# Altium schematic symbol library driver_motor_bridge.SchLib: 33 symbols
Pins are listed as number, name and electrical type; pins without a type are passive.

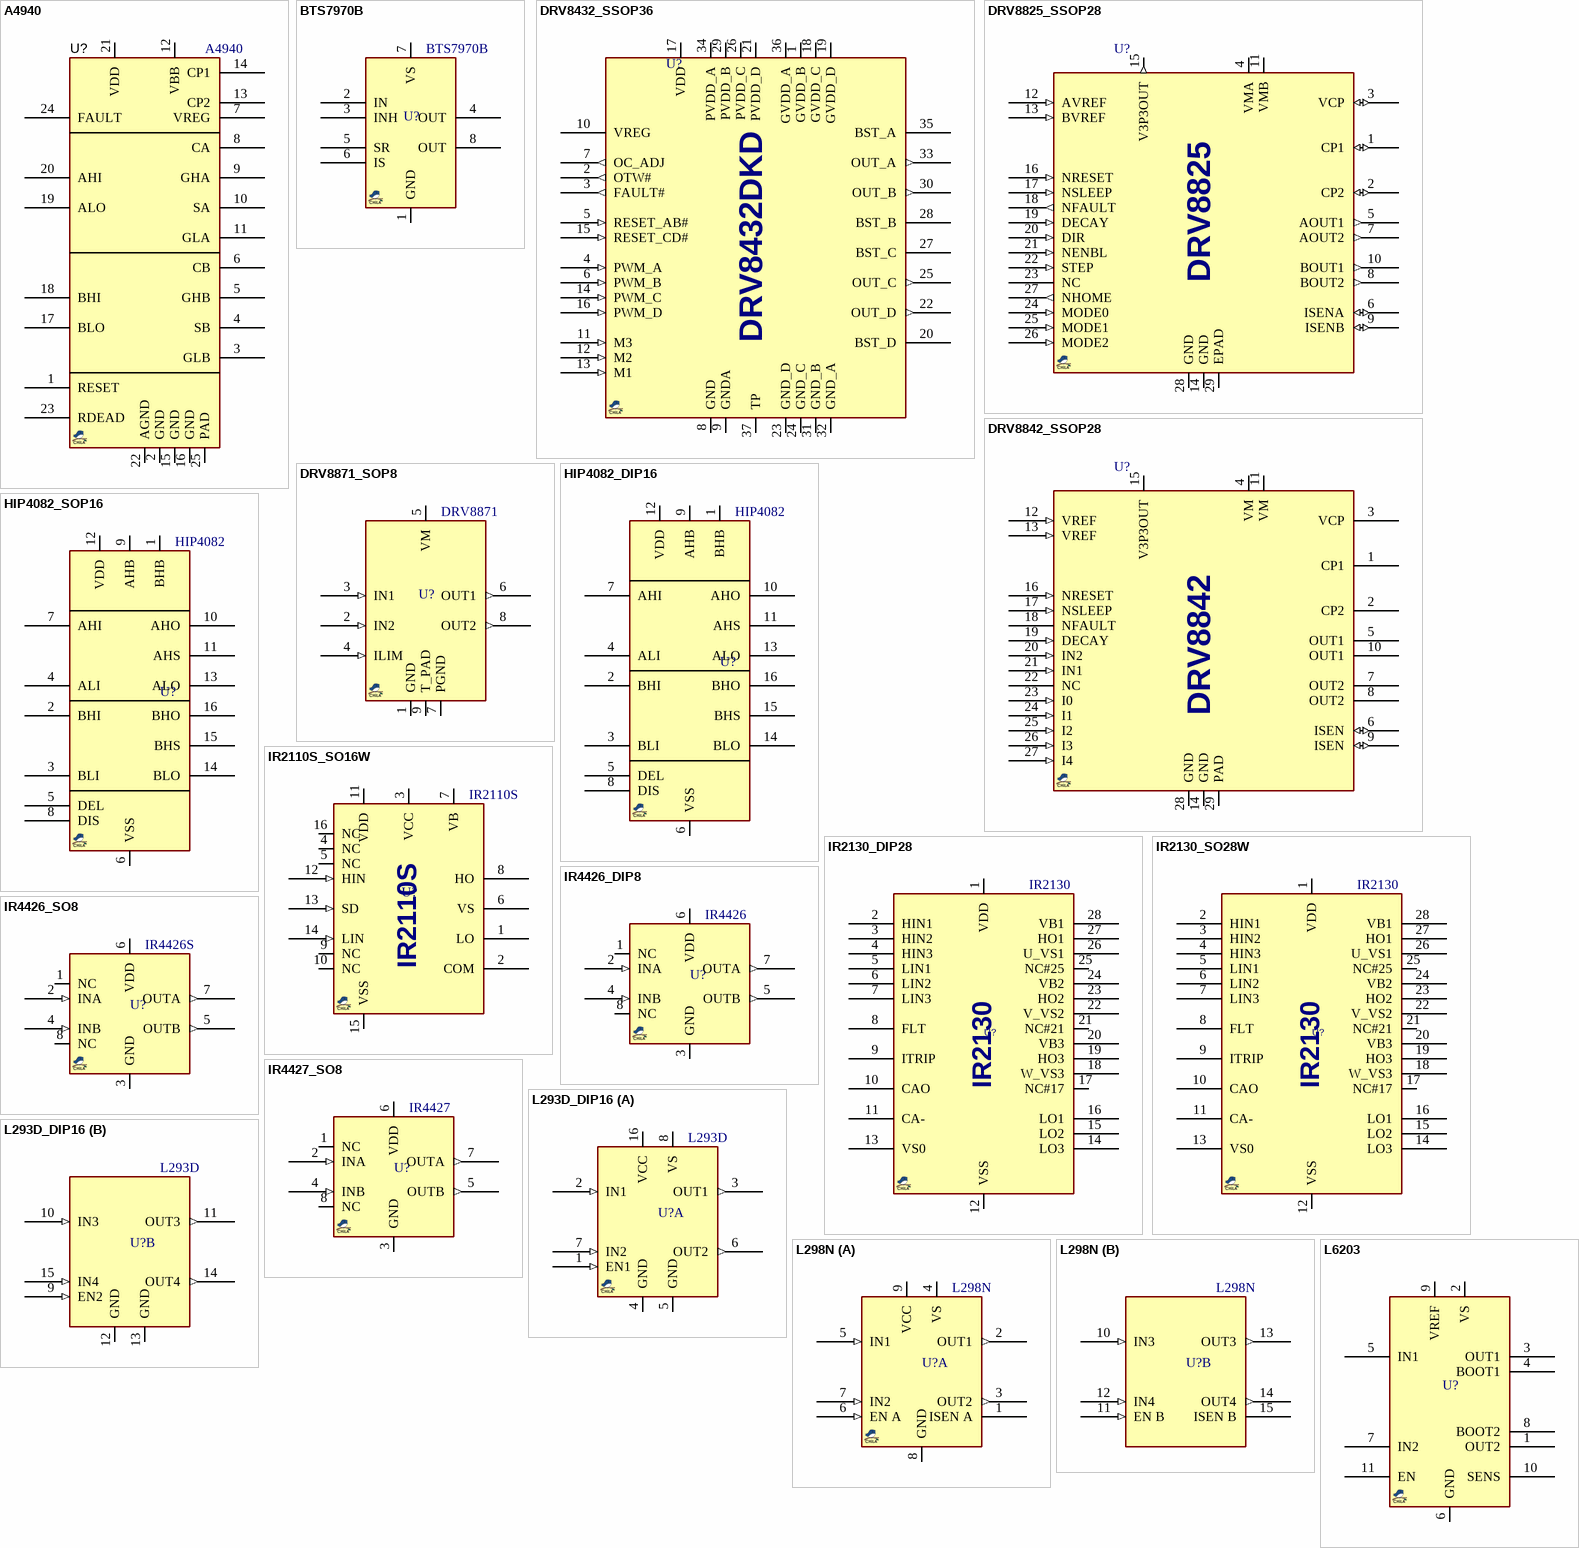
[diagram p0: symbols A4940 to L6203]

## A4940
designator U?
Driver, MOSFET, Full Bridge, Automotive; MANF_P#: A4940KLPTR-T; MANF: Allegro Microsystems Inc; PARAM2: 5.5~50V; VALUE: A4940
footprint SOG65_24T (TSSOP 4.4mm(MAXIM), MO-153-ADT (JEDEC), 24Lead, pitch: 0.65mm, 8x4.4x1.2mm)
pins: 1 RESET "reset input", 2 GND (power) "ground", 3 GLB "low-side gate drive B", 4 SB "load connection B", 5 GHB "high-side gate drive B", 6 CB "bootstrap capacitor B", 7 VREG "regulated 13V ouput", 8 CA "bootstrap capacitor A", 9 GHA "high-side gate drive A", 10 SA "load connection A", 11 GLA "low-side gate drive A", 12 VBB (power) "main supply", 13 CP2 "pump capacitor", 14 CP1 "pump capacitor", 15 GND (power) "ground", 16 GND (power) "ground", 17 BLO "control input B low side", 18 BHI "control input B high side", 19 ALO "control input A low side", 20 AHI "control input A high side", 21 VDD (power) "logic supply", 22 AGND (power) "ground reference", 23 RDEAD "dead time setting input", 24 FAULT "fault output", 25 PAD (power) "exposed die pad"

## BTS7970B
designator U?
Driver, MOTOR, H-BRIDGE, 68A, 7mΩ,; MANF: Infineon; MANF_P#: BTS7970B; PARAM: 68A, 7mΩ,; VALUE: BTS7970B
footprint D2PAK_7 (TO-263-7, D2PAK-7, FMG127_7_S1000)
pins: 1 GND (power), 2 IN (power), 3 INH (power), 4 OUT (power), 5 SR (power), 6 IS (power), 7 VS (power), 8 OUT (power)

## DRV8432_SSOP36
designator U?, comment DRV8432  (value not drawn)
Driver, Motor, Full-Bridge, Dual, PWM; MANF: Texas Instruments; MANF_P#: DRV8432DKDR; VALUE: DRV8432
footprint SOG65_36T_D (HSSOP 36 DKD)
pins: 1 GVDD_B (power), 2 OTW# (out), 3 FAULT# (out), 4 PWM_A (in), 5 RESET_AB# (in), 6 PWM_B (in), 7 OC_ADJ (out), 8 GND (power), 9 GNDA (power), 10 VREG (power), 11 M3 (in), 12 M2 (in), 13 M1 (in), 14 PWM_C (in), 15 RESET_CD# (in), 16 PWM_D (in), 17 VDD (power), 18 GVDD_C (power), 19 GVDD_D (power), 20 BST_D (power), 21 PVDD_D (power), 22 OUT_D (out), 23 GND_D (power), 24 GND_C (power), 25 OUT_C (out), 26 PVDD_C (power), 27 BST_C (power), 28 BST_B (power), 29 PVDD_B (power), 30 OUT_B (out), 31 GND_B (power), 32 GND_A (power), 33 OUT_A (out), 34 PVDD_A (power), 35 BST_A (power), 36 GVDD_A (power), 37 TP
text: DRV8432DKD

## DRV8825_SSOP28
designator U?, comment DRV8825  (value not drawn)
Driver, DC Motor, Stepper, Up to 1/32 stepping; MANF: Texas Instruments; MANF_P#: DRV8825PWPR; PARAM2: 8.2~45V; PARAM: 2.5A@24V; VALUE: DRV8825
footprint SOG65_28T (TSSOP 4.4mm, MO-153-AET (JEDEC), 28TLead, pitch: 0.65mm, 10x4.4x1.2mm, PWP HTSSOP R-PDSO-G28)
pins: 1 CP1 (io), 2 CP2 (io), 3 VCP (io), 4 VMA (power), 5 AOUT1 (out), 6 ISENA (io), 7 AOUT2 (out), 8 BOUT2 (out), 9 ISENB (io), 10 BOUT1 (out), 11 VMB (power), 12 AVREF (in), 13 BVREF (in), 14 GND (power), 15 V3P3OUT (out), 16 NRESET (in), 17 NSLEEP (in), 18 NFAULT (out), 19 DECAY (in), 20 DIR (in), 21 NENBL (in), 22 STEP (in), 23 NC, 24 MODE0 (in), 25 MODE1 (in), 26 MODE2 (in), 27 NHOME (out), 28 GND (power), 29 EPAD

## DRV8842_SSOP28
designator U?, comment DRV8842  (value not drawn)
Driver, DC Motor; MANF: Texas Instruments; MANF_P#: DRV8842PWPR; PARAM2: 8.2~45V; PARAM: 5A; VALUE: DRV8842
footprint SOG65_28T (TSSOP 4.4mm, MO-153-AET (JEDEC), 28TLead, pitch: 0.65mm, 10x4.4x1.2mm, PWP HTSSOP R-PDSO-G28)
pins: 1 CP1, 2 CP2, 3 VCP (power), 4 VM (power), 5 OUT1 (power), 6 ISEN (io), 7 OUT2 (power), 8 OUT2 (power), 9 ISEN (io), 10 OUT1 (power), 11 VM (power), 12 VREF (in), 13 VREF (in), 14 GND (power), 15 V3P3OUT (power), 16 NRESET (in), 17 NSLEEP (in), 18 NFAULT (oc), 19 DECAY (in), 20 IN2 (in), 21 IN1 (in), 22 NC, 23 I0 (in), 24 I1 (in), 25 I2 (in), 26 I3 (in), 27 I4 (in), 28 GND (power), 29 PAD (power)

## DRV8871_SOP8
designator U?, comment DRV8871
Drive, Brushed DC Motor,  Internal Current Sense (PWM Control); MANF: Texas Instruments; MANF_P#: DRV8871DDA; PARAM2: ±2.5~±20V; PARAM: 3.6-A; VALUE: DRV8871
footprint SO_8T (SOP-8, 5x3.9mm body 0.5mm pitch, DDA, SO PowerPAD)
pins: 1 GND (power), 2 IN2 (in), 3 IN1 (in), 4 ILIM (in), 5 VM (power), 6 OUT1 (out), 7 PGND (power), 8 OUT2 (out), 9 T_PAD (power)

## HIP4082_DIP16
designator U?, comment HIP4082
Driver, H-BRIDGE, 80V, 1.25A; MANF: Intersil; MANF_P#: HIP4082IPZ; VALUE: HIP4082
footprint DIP_16 (DIP, pitch 2.54mm, 300mil Width)
pins: 1 BHB, 2 BHI, 3 BLI, 4 ALI, 5 DEL, 6 VSS, 7 AHI, 8 DIS, 9 AHB, 10 AHO, 11 AHS, 12 VDD, 13 ALO, 14 BLO, 15 BHS, 16 BHO

## HIP4082_SOP16
designator U?, comment HIP4082
Driver, H-BRIDGE, 80V, 1.25A; MANF: Intersil; MANF_P#: HIP4082IBZ; VALUE: HIP4082
footprint SO_16 (SOP, SOIC, 3.9mm width, 1.27mm pitch,)
pins: 1 BHB, 2 BHI, 3 BLI, 4 ALI, 5 DEL, 6 VSS, 7 AHI, 8 DIS, 9 AHB, 10 AHO, 11 AHS, 12 VDD, 13 ALO, 14 BLO, 15 BHS, 16 BHO

## IR2110S_SO16W
designator U?, comment IR2110S
Driver, MOSFET, High&Low Side; MANF: Infineon; MANF_P#: IR2110SPBF; PARAM: 2A, 20A; PRICE: 4$; VALUE: IR2110S
footprint SO_16_W (SOP, SOIC, 7.5mm width, 1.27mm pitch,)
pins: 1 LO (power), 2 COM (power), 3 VCC (power), 4 NC (hiz), 5 NC (hiz), 6 VS (power), 7 VB (power), 8 HO (power), 9 NC (hiz), 10 NC (hiz), 11 VDD (power), 12 HIN (in), 13 SD (in), 14 LIN (in), 15 VSS (power), 16 NC (hiz)

## IR2130_DIP28
designator U?, comment IR2130
Driver, Bridge, 3-Phase; MANF: International Rectifier, Infineon; PARAM: 200mA, 20V; MANF_P#: IR2130; VALUE: IR2130
footprint DIP_28DW (DIP, pitch 2.54mm, 600mil Width)
pins: 1 VDD, 2 HIN1, 3 HIN2, 4 HIN3, 5 LIN1, 6 LIN2, 7 LIN3, 8 FLT, 9 ITRIP, 10 CAO, 11 CA-, 12 VSS, 13 VS0, 14 LO3, 15 LO2, 16 LO1, 17 NC#17, 18 W_VS3, 19 HO3, 20 VB3, 21 NC#21, 22 V_VS2, 23 HO2, 24 VB2, 25 NC#25, 26 U_VS1, 27 HO1, 28 VB1

## IR2130_SO28W
designator U?, comment IR2130
Driver, Bridge, 3-Phase; MANF: International Rectifier, Infineon; MANF_P#: IR2130S; PARAM: 200mA, 20V; VALUE: IR2130
footprint SO_28_W (SOP, SOIC, 7.5mm width, 1.27mm pitch,)
pins: 1 VDD, 2 HIN1, 3 HIN2, 4 HIN3, 5 LIN1, 6 LIN2, 7 LIN3, 8 FLT, 9 ITRIP, 10 CAO, 11 CA-, 12 VSS, 13 VS0, 14 LO3, 15 LO2, 16 LO1, 17 NC#17, 18 W_VS3, 19 HO3, 20 VB3, 21 NC#21, 22 V_VS2, 23 HO2, 24 VB2, 25 NC#25, 26 U_VS1, 27 HO1, 28 VB1

## IR4426_DIP8
designator U?, comment IR4426
Driver, Dual High-Speed 1.5A MOSFET; MANF: Infineon; MANF_P#: IR4426PBF; PARAM: 1.5A, 20V, -40~125C; VALUE: IR4426
footprint DIP_8 (DIP, pitch 2.54mm, 300mil Width)
pins: 1 NC, 2 INA (in), 3 GND (power), 4 INB (in), 5 OUTB (out), 6 VDD (power), 7 OUTA (out), 8 NC

## IR4426_SO8
designator U?, comment IR4426S
Driver, Dual High-Speed 1.5A MOSFET; MANF: Infineon; MANF_P#: IR4426SPBF; PARAM: 1.5A, 20V, -40~125C; VALUE: IR4426S
footprint SO_8 (SOP-8, 5x3.9mm body 1.27mm pitch, SOT96-1, M08A, S8, SOIC8, VO8, MS-012AA(JEDEC), R-8, 8S2, VOG8)
pins: 1 NC, 2 INA (in), 3 GND (power), 4 INB (in), 5 OUTB (out), 6 VDD (power), 7 OUTA (out), 8 NC

## IR4427_SO8
designator U?, comment IR4427
Driver, Dual High-Speed 1.5A MOSFET; MANF: Infineon; MANF_P#: IR4427SPBF; PARAM: 1.5A, 20V, -40~125C; VALUE: IR4427
footprint SO_8 (SOP-8, 5x3.9mm body 1.27mm pitch, SOT96-1, M08A, S8, SOIC8, VO8, MS-012AA(JEDEC), R-8, 8S2, VOG8)
pins: 1 NC, 2 INA (in), 3 GND (power), 4 INB (in), 5 OUTB (out), 6 VDD (power), 7 OUTA (out), 8 NC

## L293D_DIP16
designator U?, comment L293D
Driver, Dual Full Bridge, PUSH-PULL; MANF: ST; PARAM: 2A, 36V; MANF_P#: L293D; VALUE: L293D
footprint DIP_16 (DIP, pitch 2.54mm, 300mil Width)
part A pins: 1 EN1 (in), 2 IN1 (in), 3 OUT1 (out), 4 GND (power), 5 GND (power), 6 OUT2 (out), 7 IN2 (in), 8 VS (power), 16 VCC (power)
part B pins: 9 EN2 (in), 10 IN3 (in), 11 OUT3 (out), 12 GND (power), 13 GND (power), 14 OUT4 (out), 15 IN4 (in)

## L298N
designator U?
Driver, Dual Full Bridge, PUSH-PULL; MANF: ST; PARAM: 4A, 46V; MANF_P#: L298N; VALUE: L298N
footprint MULTIWATT_15H (L298 bended MULTIWATT15 pitch: 1.27mm 20x5mm)
footprint MULTIWATT_15V (L298 straight MULTIWATT15 pitch: 1.27mm 20x5mm)
part A pins: 1 ISEN A, 2 OUT1 (out), 3 OUT2 (out), 4 VS (power), 5 IN1 (in), 6 EN A (in), 7 IN2 (in), 8 GND (power), 9 VCC (power)
part B pins: 10 IN3 (in), 11 EN B (in), 12 IN4 (in), 13 OUT3 (out), 14 OUT4 (out), 15 ISEN B

## L6203
designator U?
Driver, Full Bridge, DMOS; MANF: ST; PARAM2: 12~48V; PARAM: 4A; MANF_P#: L6203; VALUE: L6203
footprint MULTIWATT_11 (Use For L6203)
pins: 1 OUT2, 2 VS, 3 OUT1, 4 BOOT1, 5 IN1, 6 GND, 7 IN2, 8 BOOT2, 9 VREF, 10 SENS, 11 EN

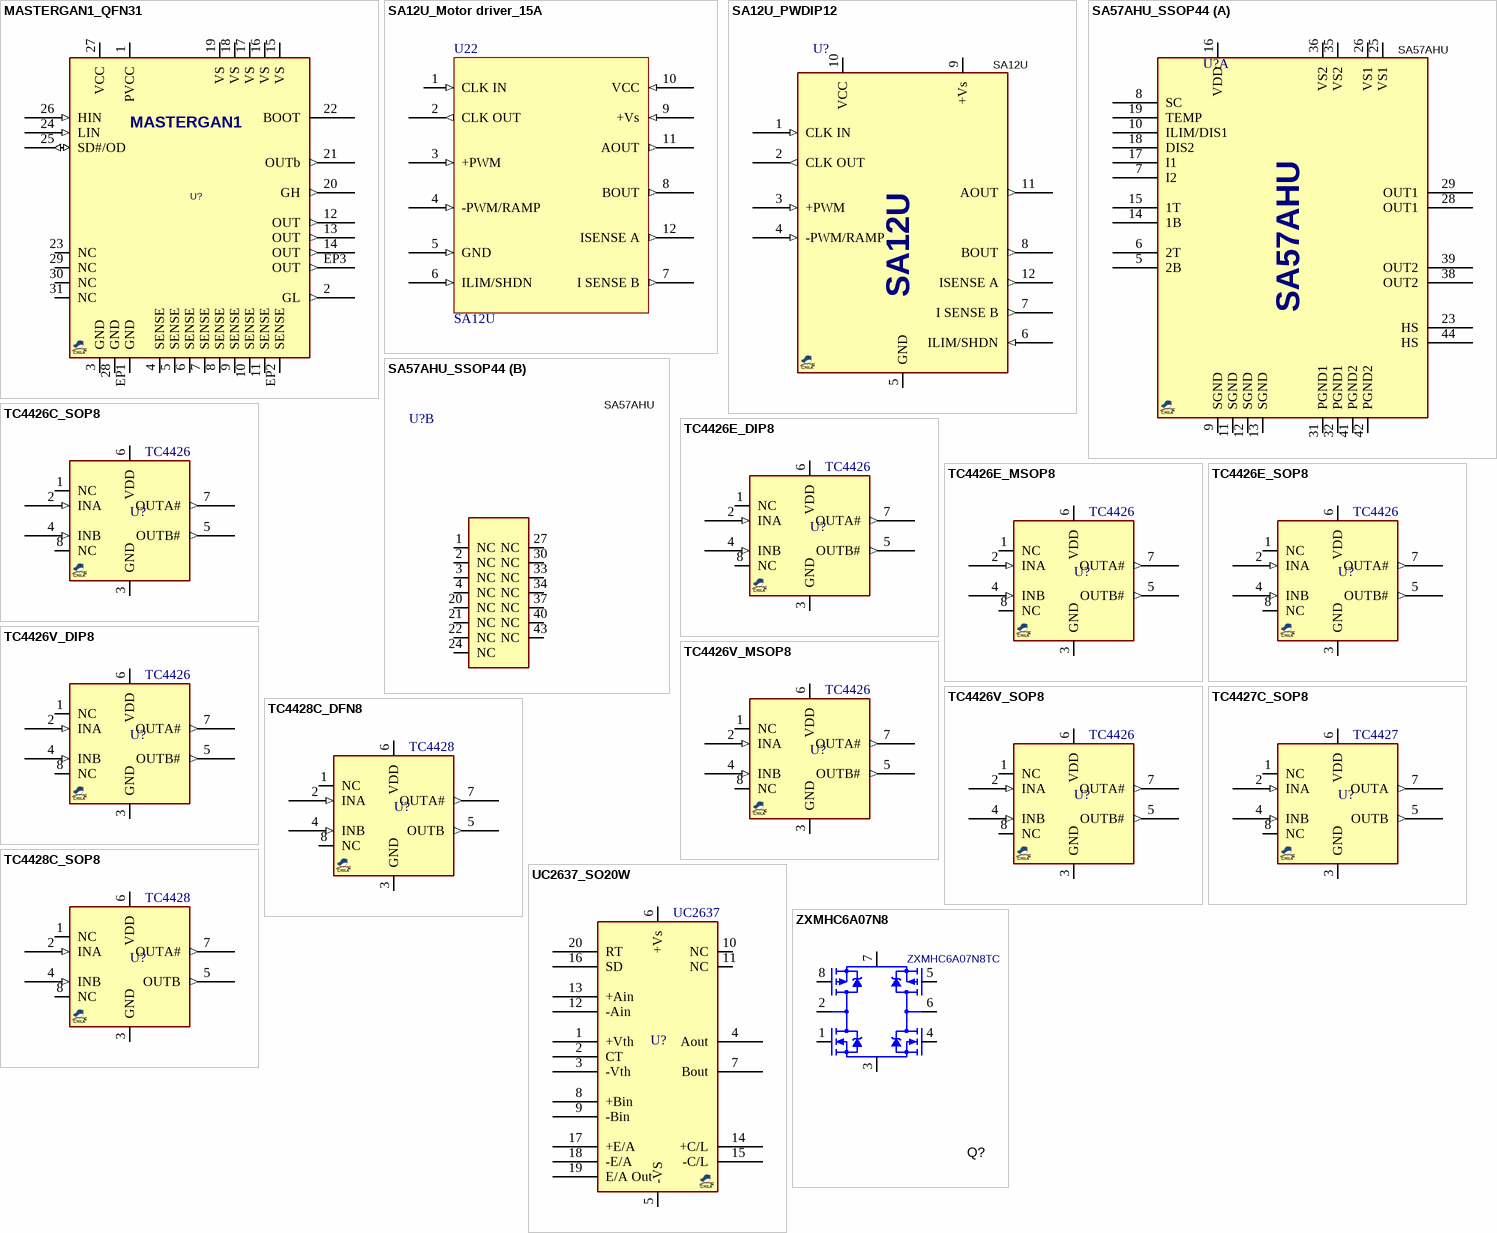
[diagram p1: symbols MASTERGAN1_QFN31 to ZXMHC6A07N8]

## MASTERGAN1_QFN31
designator U?, comment MASTERGAN1  (value not drawn)
Driver, Half bridge, 600v GaN; MANF: ST; PARAM: 10A, 150mOhm; MANF_P#: MASTERGAN1; PARAM2: 600v; PRICE: 12$; VALUE: MASTERGAN1
footprint QFN60_31T_9X9 (QFN 9x9x1mm, 31 leads, pitch 0.6 mm)
pins: 1 PVCC (power), 2 GL (out), 3 GND, 4 SENSE (power), 5 SENSE (power), 6 SENSE (power), 7 SENSE (power), 8 SENSE (power), 9 SENSE (power), 10 SENSE (power), 11 SENSE (power), 12 OUT (out), 13 OUT (out), 14 OUT (out), 15 VS (power), 16 VS (power), 17 VS (power), 18 VS (power), 19 VS (power), 20 GH (out), 21 OUTb (out), 22 BOOT (power), 23 NC, 24 LIN (in), 25 SD#/OD (io), 26 HIN (in), 27 VCC (power), 28 GND, 29 NC, 30 NC, 31 NC, EP1 GND, EP2 SENSE (power), EP3 OUT (out)

## SA12U_Motor driver_15A
designator U22, comment SA12U
SA12_PWM  Amplifier_15A_Apex; MANF: APEX; Value: *; MANF_P#: SA12U
footprint SA12
pins: 1 CLK IN (in), 2 CLK OUT (out), 3 +PWM (in), 4 -PWM/RAMP (in), 5 GND (in), 6 ILIM/SHDN (in), 7 I SENSE B (out), 8 BOUT (out), 9 +Vs (in), 10 VCC (in), 11 AOUT (out), 12 ISENSE A (out)
2 alternate drawings of the same symbol

## SA12U_PWDIP12
designator U?, comment SA12U
Driver, Pulse Width Modulation Amp; MANF: Apex; PARAM2: 200+Vs, 16VCC; PARAM: 15A; MANF_P#: SA12U; VALUE: SA12U
footprint SOG65_44T (Footprint not found)
pins: 1 CLK IN (in), 2 CLK OUT (out), 3 +PWM (in), 4 -PWM/RAMP (in), 5 GND, 6 ILIM/SHDN (in), 7 I SENSE B (out), 8 BOUT (out), 9 +Vs, 10 VCC, 11 AOUT (out), 12 ISENSE A (out)

## SA57AHU_SSOP44
designator U?, comment SA57AHU
Driver, DC Motor, 8a; MANF: Apex; PARAM2: 8.5~60V; MANF_P#: SA57AHU; PARAM: 8A; VALUE: SA57AHU
footprint SOG65_44T (Footprint not found)
part A pins: 5 2B, 6 2T, 7 I2, 8 SC, 9 SGND, 10 ILIM/DIS1, 11 SGND, 12 SGND, 13 SGND, 14 1B, 15 1T, 16 VDD, 17 I1, 18 DIS2, 19 TEMP, 23 HS, 25 VS1, 26 VS1, 28 OUT1, 29 OUT1, 31 PGND1, 32 PGND1, 35 VS2, 36 VS2, 38 OUT2, 39 OUT2, 41 PGND2, 42 PGND2, 44 HS
part B pins: 1 NC, 2 NC, 3 NC, 4 NC, 20 NC, 21 NC, 22 NC, 24 NC, 27 NC, 30 NC, 33 NC, 34 NC, 37 NC, 40 NC, 43 NC

## TC4426C_SOP8
designator U?, comment TC4426
Driver, Dual High-Speed 1.5A MOSFET; MANF: Infineon; MANF_P#: TC4426COA, TC4426ACOA; PARAM2: 4.5~18V; PARAM: 1.5A, 0~70oC; PRICE: 1.3$; VALUE: TC4426
footprint SO_8 (SOP-8, 5x3.9mm body 1.27mm pitch, SOT96-1, M08A, S8, SOIC8, VO8, MS-012AA(JEDEC), R-8, 8S2, VOG8)
pins: 1 NC, 2 INA (in), 3 GND (power), 4 INB (in), 5 OUTB# (out), 6 VDD (power), 7 OUTA# (out), 8 NC

## TC4426E_DIP8
designator U?, comment TC4426
Driver, Dual High-Speed 1.5A MOSFET; MANF: Infineon; MANF_P#: TC4426EPA, TC4426AEPA; PARAM2: 4.5~18V; PARAM: 1.5A, -40~85oC; PRICE: 1.4$; VALUE: TC4426
footprint DIP_8 (DIP, pitch 2.54mm, 300mil Width)
pins: 1 NC, 2 INA (in), 3 GND (power), 4 INB (in), 5 OUTB# (out), 6 VDD (power), 7 OUTA# (out), 8 NC

## TC4426E_MSOP8
designator U?, comment TC4426
Driver, Dual High-Speed 1.5A MOSFET; MANF: Infineon; MANF_P#: TC4426EUA, TC4426AEUA; PARAM2: 4.5~18V; PARAM: 1.5A, -40~85oC; PRICE: 2$; VALUE: TC4426
footprint SOG65_8_3 (TSSOP8, MICRO8, DGK VSSOP-8, pitch: 0.65mm, 3X3mm, MSOP8, RM-8, MS8, MSOP-8, TSSO3X5-G8/D3.1, 8 uMAX, usop8/8uSOP, MO-187AA, MO-153AA, SSOP DCT (TI))
pins: 1 NC, 2 INA (in), 3 GND (power), 4 INB (in), 5 OUTB# (out), 6 VDD (power), 7 OUTA# (out), 8 NC

## TC4426E_SOP8
designator U?, comment TC4426
Driver, Dual High-Speed 1.5A MOSFET; MANF: Infineon; MANF_P#: TC4426EOA, TC4426AEOA; PARAM2: 4.5~18V; PARAM: 1.5A, -40~85oC; PRICE: 1.3$; VALUE: TC4426
footprint SO_8 (SOP-8, 5x3.9mm body 1.27mm pitch, SOT96-1, M08A, S8, SOIC8, VO8, MS-012AA(JEDEC), R-8, 8S2, VOG8)
pins: 1 NC, 2 INA (in), 3 GND (power), 4 INB (in), 5 OUTB# (out), 6 VDD (power), 7 OUTA# (out), 8 NC

## TC4426V_DIP8
designator U?, comment TC4426
Driver, Dual High-Speed 1.5A MOSFET; MANF: Infineon; MANF_P#: TC4426VPA, TC4426AVPA; PARAM2: 4.5~18V; PARAM: 1.5A, -40~125oC; PRICE: 1.4$; VALUE: TC4426
footprint DIP_8 (DIP, pitch 2.54mm, 300mil Width)
pins: 1 NC, 2 INA (in), 3 GND (power), 4 INB (in), 5 OUTB# (out), 6 VDD (power), 7 OUTA# (out), 8 NC

## TC4426V_MSOP8
designator U?, comment TC4426
Driver, Dual High-Speed 1.5A MOSFET; MANF: Infineon; MANF_P#: TC4426VUA, TC4426AVUA; PARAM2: 4.5~18V; PARAM: 1.5A, -40~125oC; PRICE: 2$; VALUE: TC4426
footprint SOG65_8_3 (TSSOP8, MICRO8, DGK VSSOP-8, pitch: 0.65mm, 3X3mm, MSOP8, RM-8, MS8, MSOP-8, TSSO3X5-G8/D3.1, 8 uMAX, usop8/8uSOP, MO-187AA, MO-153AA, SSOP DCT (TI))
pins: 1 NC, 2 INA (in), 3 GND (power), 4 INB (in), 5 OUTB# (out), 6 VDD (power), 7 OUTA# (out), 8 NC

## TC4426V_SOP8
designator U?, comment TC4426
Driver, Dual High-Speed 1.5A MOSFET; MANF: Infineon; MANF_P#: TC4426VOA, TC4426AVOA; PARAM2: 4.5~18V; PARAM: 1.5A, -40~125oC; PRICE: 1.3$; VALUE: TC4426
footprint SO_8 (SOP-8, 5x3.9mm body 1.27mm pitch, SOT96-1, M08A, S8, SOIC8, VO8, MS-012AA(JEDEC), R-8, 8S2, VOG8)
pins: 1 NC, 2 INA (in), 3 GND (power), 4 INB (in), 5 OUTB# (out), 6 VDD (power), 7 OUTA# (out), 8 NC

## TC4427C_SOP8
designator U?, comment TC4427
Driver, Dual High-Speed 1.5A MOSFET; MANF: Infineon; MANF_P#: TC4427COA, TC4427ACOA; PARAM2: 4.5~18V; PARAM: 1.5A, 0~70oC; PRICE: 1.3$; VALUE: TC4427
footprint SO_8 (SOP-8, 5x3.9mm body 1.27mm pitch, SOT96-1, M08A, S8, SOIC8, VO8, MS-012AA(JEDEC), R-8, 8S2, VOG8)
pins: 1 NC, 2 INA (in), 3 GND (power), 4 INB (in), 5 OUTB (out), 6 VDD (power), 7 OUTA (out), 8 NC

## TC4428C_DFN8
designator U?, comment TC4428
Driver, Dual High-Speed 1.5A MOSFET; MANF: Microchip; MANF_P#: TC4428VMF, TC4428AVMF; PARAM2: 4.5~18V; PARAM: 1.5A, 0~70oC; PRICE: 0.9$; VALUE: TC4428
footprint SON127_8T_5060 (WSON8_6X5)
pins: 1 NC, 2 INA (in), 3 GND (power), 4 INB (in), 5 OUTB (out), 6 VDD (power), 7 OUTA# (out), 8 NC

## TC4428C_SOP8
designator U?, comment TC4428
Driver, Dual High-Speed 1.5A MOSFET; MANF: Microchip; MANF_P#: TC4428COA, TC4428ACOA; PARAM2: 4.5~18V; PARAM: 1.5A, 0~70oC; PRICE: 1.3$; VALUE: TC4428
footprint SO_8 (SOP-8, 5x3.9mm body 1.27mm pitch, SOT96-1, M08A, S8, SOIC8, VO8, MS-012AA(JEDEC), R-8, 8S2, VOG8)
pins: 1 NC, 2 INA (in), 3 GND (power), 4 INB (in), 5 OUTB (out), 6 VDD (power), 7 OUTA# (out), 8 NC

## UC2637_SO20W
designator U?, comment UC2637
Drive, DC Motor, Switched Mode Controller; MANF: Texas Instruments; MANF_P#: UC2637DW; PARAM2: ±2.5~±20V; PARAM: 500mA,; VALUE: UC2637
footprint SO_20_W (SOP, SOIC, 7.5mm width, 1.27mm pitch,)
pins: 1 +Vth, 2 CT, 3 -Vth, 4 Aout, 5 -VS, 6 +Vs, 7 Bout, 8 +Bin, 9 -Bin, 10 NC, 11 NC, 12 -Ain, 13 +Ain, 14 +C/L, 15 -C/L, 16 SD, 17 +E/A, 18 -E/A, 19 E/A Out, 20 RT

## ZXMHC6A07N8
designator Q?, comment ZXMHC6A07N8TC
Driver, MOSFET H-Bridge 2N 2P SOIC-8 SMD; MANF: Diodes Inc; PARAM2: 250 mOhm @ 1.8A, 10V; PARAM: 60V, 1.3A, 870mW; MANF_P#: ZXMHC6A07N8TC; VALUE: ZXMHC6A07N8TC
footprint SOIC127P600X175-8AN (SOIC, 8-Leads, Body 4.9x3.9mm, Pitch 1.27mm, IPC Medium Density)
pins: 1 N1G, 2 N1D/P1D, 3 N1S/N2S, 4 N2G, 5 P2G, 6 N2D/P2D, 7 P1S/P2S, 8 P1G